# EAGLE library part SMT_AVR_PROGRAMMER (library cccamd)
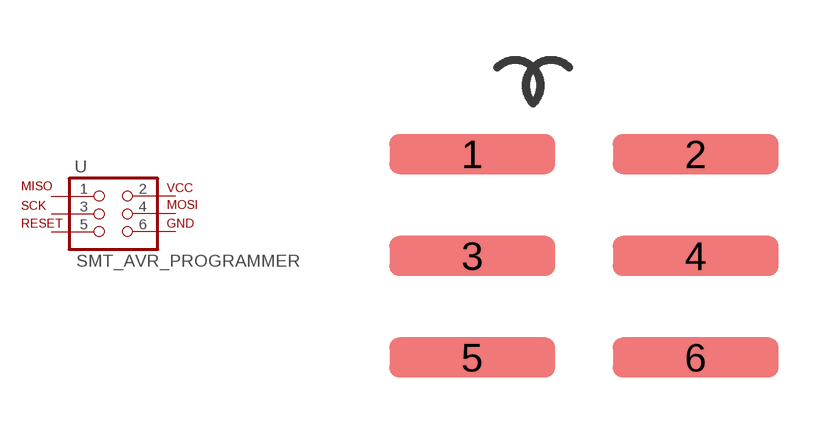
[diagram p2: symbol with the pads of 2X5-SHROUDED_SMD; footprint 2X5-SHROUDED_SMD]

Designator prefix -

## SMT_AVR_PROGRAMMER  [2X5-SHROUDED_SMD]
1  1  pas
2  2  pas
3  3  pas
4  4  pas
5  5  pas
6  6  pas

## Footprint 2X5-SHROUDED_SMD (pad centres in mm)
smd 4.15 x 1: 1 -2.794,2.54; 2 2.794,2.54; 3 -2.794,0; 4 2.794,0; 5 -2.794,-2.54; 6 2.794,-2.54